# EAGLE library part TPA2016D2 (library Radio Projekt)
Amplifier .dev
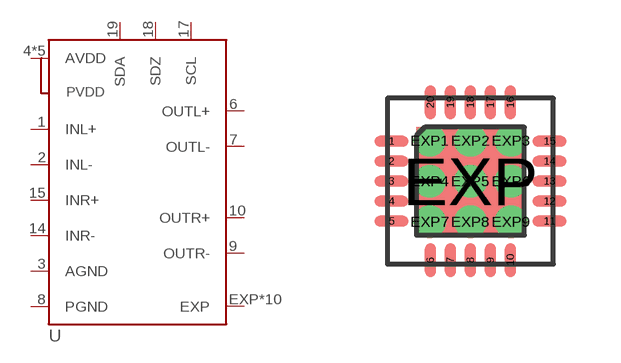
[diagram p1: symbol with the pads of TPA2016D2_PWQFN-20; footprint TPA2016D2_PWQFN-20]

Designator prefix -

## TPA2016D2  [TPA2016D2_PWQFN-20]
1  INL+
2  INL-
3  AGND
4  AVDD
5  AVDD
6  OUTL+
7  OUTL-
8  PGND
9  OUTR-
10  OUTR+
11  AVDD
12  AVDD
13  AVDD
14  INR-
15  INR+
17  SCL
18  SDZ
19  SDA
EXP  EXP
EXP1  EXP
EXP2  EXP
EXP3  EXP
EXP4  EXP
EXP5  EXP
EXP6  EXP
EXP7  EXP
EXP8  EXP
EXP9  EXP

## Footprint TPA2016D2_PWQFN-20 (pad centres in mm)
Amplifier .pac
smd 0.85 x 0.28: 1 -1.975,1; 2 -1.975,0.5; 3 -1.975,0; 4 -1.975,-0.5; 5 -1.975,-1; 11 1.975,-1; 12 1.975,-0.5; 13 1.975,0; 14 1.975,0.5; 15 1.975,1
smd 0.28 x 0.85: 6 -1,-1.975; 7 -0.5,-1.975; 8 0,-1.975; 9 0.5,-1.975; 10 1,-1.975; 16 1,1.975; 17 0.5,1.975; 18 0,1.975; 19 -0.5,1.975; 20 -1,1.975
smd 2.7 x 2.7: EXP 0,0
drill 0.3 pad 0.35: EXP1 -1.016,1.016; EXP2 0,1.016; EXP3 1.016,1.016; EXP4 -1.016,0; EXP5 0,0; EXP6 1.016,0; EXP7 -1.016,-1.016; EXP8 0,-1.016; EXP9 1.016,-1.016